# EAGLE library part MEZ_DF12B-14 (library heck)
HIROSE DF12B Header/Recepticle, 14 pin
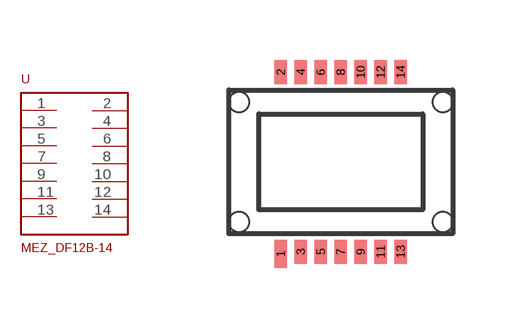
[diagram p4: symbol with the pads of MEZ_DF12B-14; footprint MEZ_DF12B-14]

Designator prefix -

## MEZ_DF12B-14  [MEZ_DF12B-14]
1  1  pas
2  2  pas
3  3  pas
4  4  pas
5  5  pas
6  6  pas
7  7  pas
8  8  pas
9  9  pas
10  10  pas
11  11  pas
12  12  pas
13  13  pas
14  14  pas

## Footprint MEZ_DF12B-14 (pad centres in mm)
smd 0.305 x 0.71: 1 -1.5,-2.3
smd 0.305 x 0.61: 2 -1.5,2.25; 3 -1,-2.25; 4 -1,2.25; 5 -0.5,-2.25; 6 -0.5,2.25; 7 0,-2.25; 8 0,2.25; 9 0.5,-2.25; 10 0.5,2.25; 11 1,-2.25; 12 1,2.25; 13 1.5,-2.25; 14 1.5,2.25
hole 0.5 at 2.55,1.5
hole 0.5 at 2.55,-1.5
hole 0.5 at -2.55,-1.5
hole 0.5 at -2.55,1.5